# Altium footprint library International Rectifier Footprints.PcbLib: 101 footprints (part 1 of 7)
Each footprint in its own frame and in the unit in brackets; x right, y up, seen from the top. Pads: shape width x height; smd on the part's side, far side on the other; paste and mask are expansions set on the pad; w line width, h text height; cw(c..) or ccw(c..) is an arc to the next point about the centre after c.
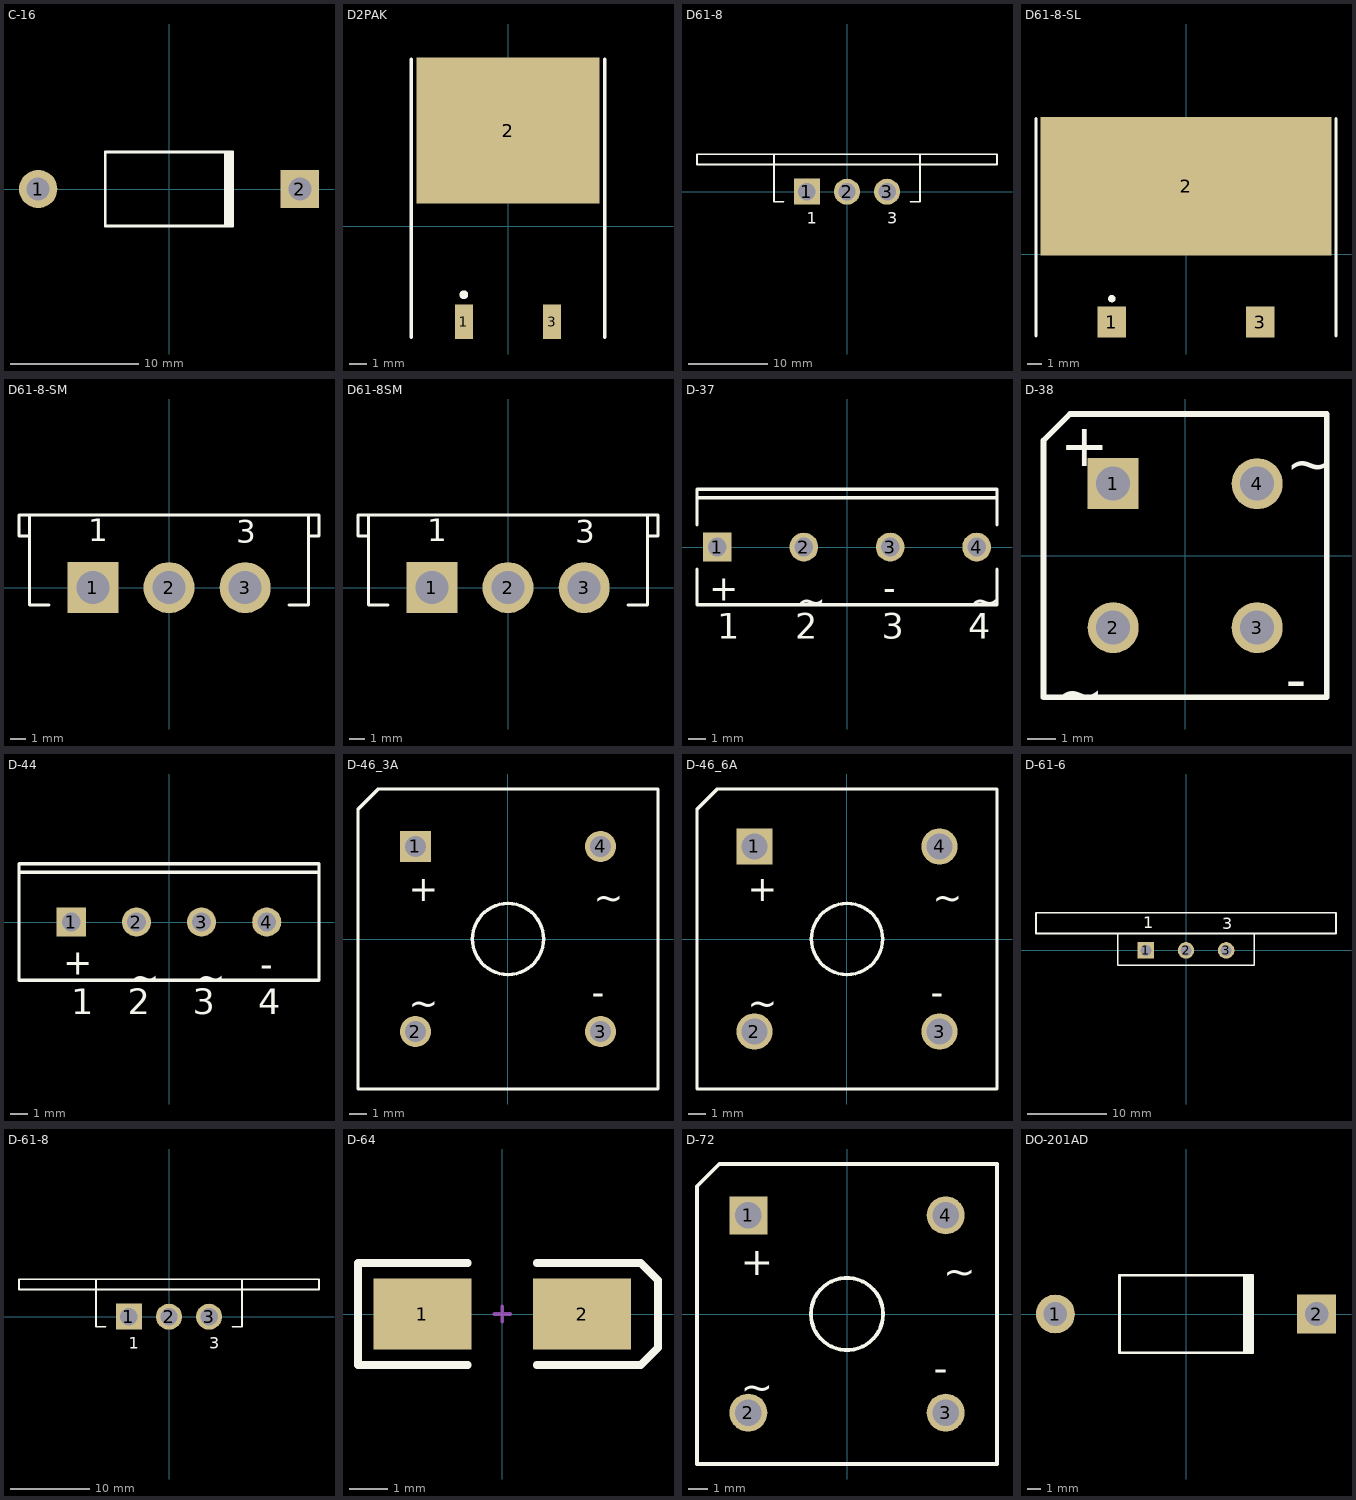
[diagram p0: the footprints below, top view; thin cyan lines are the x and y axes]

## C-16 [mm] "Diode, Axial; Body 9.9 x 5.8 mm (LxDia. max), Lead Dia. 1.5 mm (max)"
height 5.8
pads (2):
  round 3 hole 1.8: 1(-10.25,0)
  rect 3x3 hole 1.8: 2(10.25,0)
Top Overlay:
  rectangle: 4.3,-2.9 5.1,2.9
  lines w0.2: 5,-2.9 -5,-2.9 -5,2.9 5,2.9

## D2PAK [mm] "D2-PAK/TO-263-AB; 3 Leads (1 Cropped); Body 15.5 (inc. leads) x 10.5 mm (LxW max)"
height 4.69
pads (3):
  rect 1.05x2 smd: 1(-2.54,-5.5) 3(2.54,-5.5)
  rect 10.55x8.4 smd: 2(0,5.5)
Top Overlay:
  circle w0.25: c-2.54,-3.95 r0.125
  lines w0.2: -5.575,-6.4 -5.575,9.6 ; 5.575,-6.4 5.575,9.6

## D61-8 [mm] "Rectangular Flange Mount, Thru-Hole; 3 Leads; Pitch 5.08 mm"
height 10.8
pads (3):
  rect 3.3x3.3 hole 2.2: 1(-5.08,0)
  round 3.3 hole 2.2: 2(0,0) 3(5.08,0)
Top Overlay:
  lines w0.2: -9.25,4.75 -9.25,-1.25 -8,-1.25 ; 8,-1.25 9.25,-1.25 9.25,4.75 ; -19,3.45 -19,4.75 19,4.75 19,3.45 -19,3.45
  text "1" at -5.08,-4.064 h1.5
  text "3" at 5.08,-4.064 h1.5

## D61-8-SL [mm] "Single-Ended SM Package; 3 Leads (1 Cropped); Body (inc. leads) 14.4 x 19.9 mm (LxW max)"
height 5.97
pads (3):
  rect 1.95x2.1 smd: 1(-5.08,-4.65) 3(5.08,-4.65)
  rect 19.95x9.5 smd: 2(0,4.65)
Top Overlay:
  circle w0.25: c-5.08,-3.05 r0.125
  lines w0.2: -10.275,-5.6 -10.275,9.3 ; 10.275,-5.6 10.275,9.3

## D61-8-SM [mm] "Rectangular Flange Mount, Thru-Hole; 3 Leads; Pitch 5.08 mm"
height 10.8
pads (3):
  rect 3.4x3.4 hole 2.2: 1(-5.08,0)
  round 3.4 hole 2.2: 2(0,0) 3(5.08,0)
Top Overlay:
  lines w0.2: -9.3,3.45 -10,3.45 -10,4.85 10,4.85 10,3.45 9.3,3.45 ; -9.3,4.85 -9.3,-1.15 -8,-1.15 ; 8,-1.15 9.3,-1.15 9.3,4.85
  text "3" at 4.5,3 h1.5
  text "1" at -5.4,3.1 h1.5

## D61-8SM [mm] "Rectangular Flange Mount, Thru-Hole; 3 Leads; Pitch 5.08 mm"
height 10.8
pads (3):
  rect 3.4x3.4 hole 2.2: 1(-5.08,0)
  round 3.4 hole 2.2: 2(0,0) 3(5.08,0)
Top Overlay:
  lines w0.2: -9.3,3.45 -10,3.45 -10,4.85 10,4.85 10,3.45 9.3,3.45 ; -9.3,4.85 -9.3,-1.15 -8,-1.15 ; 8,-1.15 9.3,-1.15 9.3,4.85
  text "3" at 4.5,3 h1.5
  text "1" at -5.4,3.1 h1.5

## D-37 [mm] "SIP; 4 Leads; Body 15 x 17.5 x 6.8 mm (typ); Pitch 5.1 mm"
height 15
pads (4):
  rect 1.7x1.7 hole 1.1: 1(-7.65,0)
  round 1.7 hole 1.1: 2(-2.55,0) 3(2.55,0) 4(7.65,0)
Top Overlay:
  lines w0.2: -8.85,-1.3 -8.85,-3.4 8.85,-3.4 8.85,-1.3 ; -8.85,1.3 -8.85,3.4 8.85,3.4 8.85,1.3 ; -8.85,2.9 8.85,2.9
  text "1" at -7.65,-5.4 h1.5
  text "2" at -3.058,-5.4 h1.5
  text "3" at 2.042,-5.4 h1.5
  text "4" at 7.142,-5.4 h1.5
  text "-" at 2.13,-3.15 h1.5
  text "+" at -8.14,-3.16 h1.5
  text "~" at -2.97,-3.9 h1.5
  text "~" at 7.27,-3.9 h1.5

## D-38 [mm] "Bridge Rectifier; 4 Terminals; Body 9.4 x 9.4 mm (typ); Pitch 5.08 mm"
height 9.91
pads (4):
  rect 1.8x1.8 hole 1.2: 1(-2.54,2.54)
  round 1.8 hole 1.2: 2(-2.54,-2.54) 3(2.54,-2.54) 4(2.54,2.54)
Top Overlay:
  lines w0.2: -5,-5 -5,4.064 -4.064,5 5,5 5,-5 -5,-5
  text "+" at -4.41,3.164 h1.5
  text "-" at 3.556,-5.08 h1.5
  text "~" at -4.572,-5.588 h1.5
  text "~" at 3.556,2.54 h1.5

## D-44 [mm] "SIP; 4 Leads; Body 15 x 17.5 x 6.8 mm (typ); Pitch 3.8 mm"
height 15
pads (4):
  rect 1.7x1.7 hole 1.1: 1(-5.7,0)
  round 1.7 hole 1.1: 2(-1.9,0) 3(1.9,0) 4(5.7,0)
Top Overlay:
  lines w0.2: -8.75,2.9 8.75,2.9 ; -8.75,-3.4 8.75,-3.4 8.75,3.4 -8.75,3.4 -8.75,-3.4
  text "-" at 5.32,-3.19 h1.5
  text "+" at -6.18,-3.08 h1.5
  text "~" at 1.6,-3.94 h1.5
  text "~" at -2.27,-3.94 h1.5
  text "1" at -5.7,-5.38 h1.5
  text "2" at -2.408,-5.38 h1.5
  text "3" at 1.392,-5.38 h1.5
  text "4" at 5.192,-5.38 h1.5

## D-46_3A [mm] "Bridge Rectifier; 4 Terminals; Body 16.8 x 16.8 mm (typ); Pitch 10.67 mm"
height 6.35
pads (4):
  rect 1.8x1.8 hole 1.2: 1(-5.335,5.335)
  round 1.8 hole 1.2: 2(-5.335,-5.335) 3(5.335,-5.335) 4(5.335,5.335)
Top Overlay:
  circle w0.2: c0,0 r2.05
  lines w0.2: -8.65,-8.65 -8.65,7.474 -7.474,8.65 8.65,8.65 8.65,-8.65 -8.65,-8.65
  text "+" at -5.723,2.167 h1.5
  text "-" at 4.825,-3.809 h1.5
  text "~" at 4.945,1.659 h1.5
  text "~" at -5.723,-4.437 h1.5

## D-46_6A [mm] "Bridge Rectifier; 4 Terminals; Body 16.8 x 16.8 mm (typ); Pitch 10.67 mm"
height 6.35
pads (4):
  rect 2.1x2.1 hole 1.5: 1(-5.335,5.335)
  round 2.1 hole 1.5: 2(-5.335,-5.335) 3(5.335,-5.335) 4(5.335,5.335)
Top Overlay:
  circle w0.2: c0,0 r2.05
  lines w0.2: -8.65,-8.65 8.65,-8.65 8.65,8.65 -7.474,8.65 -8.65,7.474 -8.65,-8.65
  text "~" at -5.723,-4.437 h1.5
  text "~" at 4.945,1.659 h1.5
  text "-" at 4.825,-3.809 h1.5
  text "+" at -5.723,2.167 h1.5

## D-61-6 [mm] "Rectangular Flange Mount, Thru-Hole; 3 Leads; Pitch 5.08 mm"
height 8.9
pads (3):
  rect 2.1x2.1 hole 1.4: 1(-5.08,0)
  round 2.1 hole 1.4: 2(0,0) 3(5.08,0)
Top Overlay:
  lines w0.2: -8.65,2.15 -8.65,-1.85 8.65,-1.85 8.65,2.15 ; -19,2.15 -19,4.75 19,4.75 19,2.15 -19,2.15
  text "1" at -5.4,2.8 h1.5
  text "3" at 4.6,2.7 h1.5

## D-61-8 [mm] "Rectangular Flange Mount, Thru-Hole; 3 Leads; Pitch 5.08 mm"
height 10.8
pads (3):
  rect 3.3x3.3 hole 2.2: 1(-5.08,0)
  round 3.3 hole 2.2: 2(0,0) 3(5.08,0)
Top Overlay:
  lines w0.2: -9.25,4.75 -9.25,-1.25 -8,-1.25 ; 8,-1.25 9.25,-1.25 9.25,4.75 ; -19,3.45 -19,4.75 19,4.75 19,3.45 -19,3.45
  text "1" at -5.08,-4.064 h1.5
  text "3" at 5.08,-4.064 h1.5

## D-64 [mm] "DO-214-AC/SMA; 2 C-Bend Leads; Body 5.3 x 2.6 mm, inc. leads (LxW)"
height 2.34
pads (2):
  rect 2.55x1.85 smd: 1(-2.075,0) 2(2.075,0)
Top Overlay:
  lines w0.2: -0.9,-1.325 -3.75,-1.325 -3.75,1.325 -0.9,1.325 ; 0.9,-1.325 3.6,-1.325 4.05,-0.875 4.05,0.875 3.6,1.325 0.9,1.325
Mechanical 1:
  lines w0.1: -0.2,0 0.2,0 ; 0,-0.2 0,0.2

## D-72 [mm] "Bridge Rectifier; 4 Terminals; Body 15.2 x 15.2 mm (typ); Pitch 10.4 mm"
height 5.34
pads (4):
  rect 2x2 hole 1.4: 1(-5.2,5.2)
  round 2 hole 1.4: 2(-5.2,-5.2) 3(5.2,-5.2) 4(5.2,5.2)
Top Overlay:
  circle w0.2: c0,0 r1.9
  lines w0.2: -7.9,-7.9 7.9,-7.9 7.9,7.9 -6.724,7.9 -7.9,6.724 -7.9,-7.9
  text "~" at -5.588,-4.572 h1.5
  text "~" at 5.08,1.524 h1.5
  text "-" at 4.572,-3.556 h1.5
  text "+" at -5.588,2.032 h1.5

## DO-201AD [mm] "Diode, Axial; Body 9.5 x 5.3 mm (LxDia. max), Lead Dia. 1.32 mm (max)"
height 5.4
pads (2):
  round 2.8 hole 1.7: 1(-9.42,0)
  rect 2.8x2.8 hole 1.7: 2(9.42,0)
Top Overlay:
  rectangle: 4.1,-2.8 4.9,2.8
  lines w0.2: 4.8,-2.8 -4.8,-2.8 -4.8,2.8 4.8,2.8